# EAGLE library part IR1168SPBF (library International_Rectifier_By_element14_Batch_1)
DUAL SMART RECTIFIER DRIVER IC
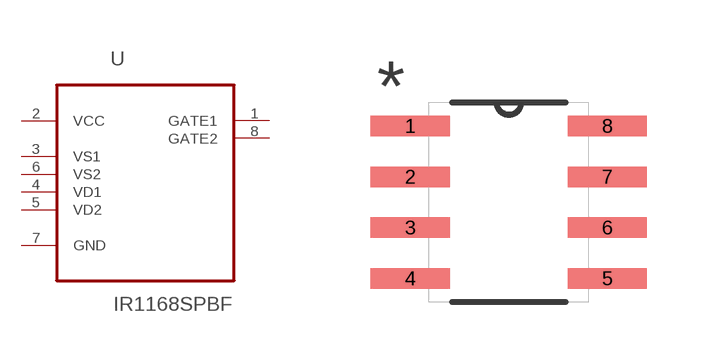
[diagram p28: symbol with the pads of SOIC127P600X175-8N; footprint SOIC127P600X175-8N]

Designator prefix U

## IR1168SPBF (MPN: IR1168SPBF; OC_FARNELL: 1827118; OC_NEWARK: 10R0385; PACKAGE: SOIC-8; SUPPLIER: INTERNATIONAL RECTIFIER)  [SOIC127P600X175-8N]
1  GATE1  out
2  VCC  pwr
3  VS1  in
4  VD1  in
5  VD2  in
6  VS2  in
7  GND  pas
8  GATE2  out

## Footprint SOIC127P600X175-8N (pad centres in mm)
smd 1.981 x 0.508: 1 -2.464,1.905; 2 -2.464,0.635; 3 -2.464,-0.635; 4 -2.464,-1.905; 5 2.464,-1.905; 6 2.464,-0.635; 7 2.464,0.635; 8 2.464,1.905